# EAGLE library part CDCLVC1104 (library cdclvc11xx_10)
CDCLVC1104 3.3V and 2.5V LVCMOS High-Performance Clock Buffer - 1:4 Fan-out Source: http://www.ti.com/lit/ds/symlink/cdclvc1104.pdf
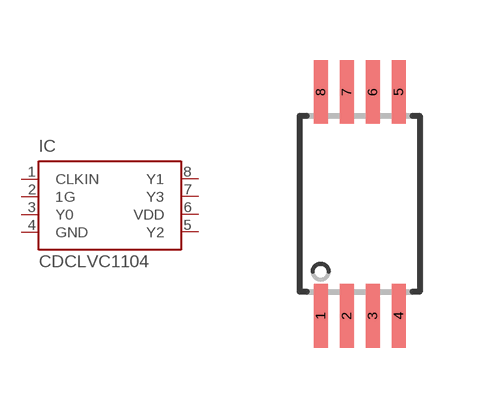
[diagram p2: symbol with the pads of TSSOP8; footprint TSSOP8]

Designator prefix IC

## CDCLVC1104PW (MF: Texas Instruments; MPN: CDCLVC1104; OC_FARNELL: 1829681; OC_NEWARK: 79R7910)  [TSSOP8]
1  CLKIN  in
2  1G  in
3  Y0  out
4  GND  pwr
5  Y2  out
6  VDD  pwr
7  Y3  out
8  Y1  out

## Footprint TSSOP8 (pad centres in mm)
TSSOP-8 Plastic Thin Srink Small Outline (PW) Source: http://www.ti.com/lit/ds/symlink/cdclvc1102.pdf
smd 0.35 x 1.6: 1 -0.975,-2.8; 2 -0.325,-2.8; 3 0.325,-2.8; 4 0.975,-2.8; 5 0.975,2.8; 6 0.325,2.8; 7 -0.325,2.8; 8 -0.975,2.8